# Altium footprint library MCU.PcbLib: 1 footprints
Each footprint in its own frame and in the unit in brackets; x right, y up, seen from the top. Pads: shape width x height; smd on the part's side, far side on the other; paste and mask are expansions set on the pad; w line width, h text height; cw(c..) or ccw(c..) is an arc to the next point about the centre after c.
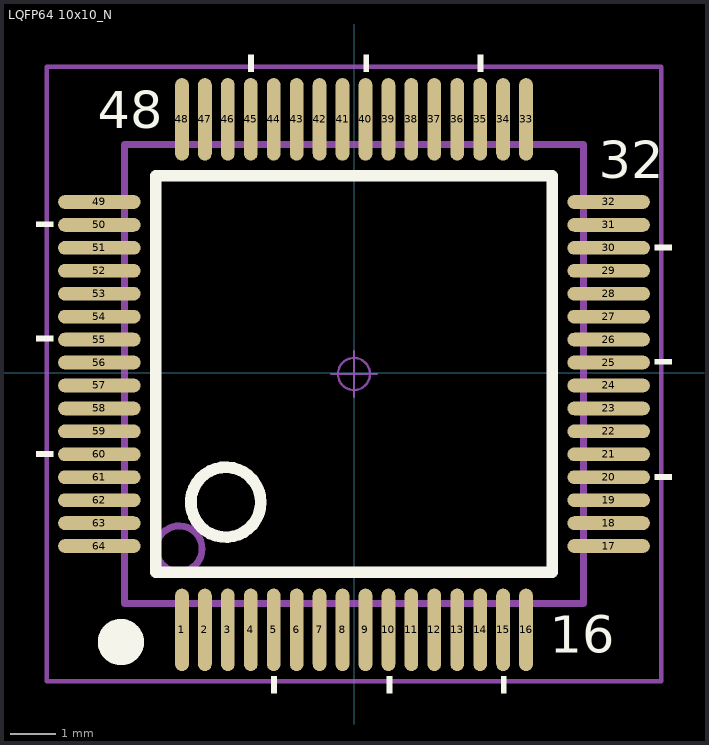
[diagram p0: the footprint, top view; thin cyan lines are the x and y axes]

## LQFP64 10x10_N [mm]
pads (64):
  oval 0.3x1.8 smd: 1(-3.75,-5.601) 2(-3.25,-5.601) 3(-2.75,-5.601) 4(-2.25,-5.601) 5(-1.75,-5.601) 6(-1.25,-5.601) 7(-0.75,-5.601) 8(-0.25,-5.601) 9(0.25,-5.601) 10(0.75,-5.601) 11(1.25,-5.601) 12(1.75,-5.601) 13(2.25,-5.601) 14(2.75,-5.601) 15(3.25,-5.601) 16(3.75,-5.601) 33(3.75,5.525) 34(3.25,5.525) 35(2.75,5.525) 36(2.25,5.525) 37(1.75,5.525) 38(1.25,5.525) 39(0.75,5.525) 40(0.25,5.525) 41(-0.25,5.525) 42(-0.75,5.525) 43(-1.25,5.525) 44(-1.75,5.525) 45(-2.25,5.525) 46(-2.75,5.525) 47(-3.25,5.525) 48(-3.75,5.525)
  oval 1.8x0.3 smd: 17(5.55,-3.775) 18(5.55,-3.275) 19(5.55,-2.775) 20(5.55,-2.275) 21(5.55,-1.775) 22(5.55,-1.275) 23(5.55,-0.775) 24(5.55,-0.275) 25(5.55,0.225) 26(5.55,0.725) 27(5.55,1.225) 28(5.55,1.725) 29(5.55,2.225) 30(5.55,2.725) 31(5.55,3.225) 32(5.55,3.725) 49(-5.55,3.725) 50(-5.55,3.225) 51(-5.55,2.725) 52(-5.55,2.225) 53(-5.55,1.725) 54(-5.55,1.225) 55(-5.55,0.725) 56(-5.55,0.225) 57(-5.55,-0.275) 58(-5.55,-0.775) 59(-5.55,-1.275) 60(-5.55,-1.775) 61(-5.55,-2.275) 62(-5.55,-2.775) 63(-5.55,-3.275) 64(-5.55,-3.775)
Top Overlay:
  circle w0.254: c-2.794,-2.819 r0.762
  circle w0.508: c-5.08,-5.867 r0.25
  region: -6.553,-1.702 -6.934,-1.702 -6.934,-1.829 -6.553,-1.829
  region: -6.553,0.813 -6.934,0.813 -6.934,0.686 -6.553,0.686
  region: -6.553,3.302 -6.934,3.302 -6.934,3.175 -6.553,3.175
  region: 6.934,-2.21 6.553,-2.21 6.553,-2.337 6.934,-2.337
  region: 6.934,0.305 6.553,0.305 6.553,0.178 6.934,0.178
  region: 6.934,2.794 6.553,2.794 6.553,2.667 6.934,2.667
  region: -2.184,6.553 -2.184,6.934 -2.311,6.934 -2.311,6.553
  region: 0.33,6.553 0.33,6.934 0.203,6.934 0.203,6.553
  region: 2.819,6.553 2.819,6.934 2.692,6.934 2.692,6.553
  region: 3.327,-6.985 3.327,-6.604 3.2,-6.604 3.2,-6.985
  region: 0.838,-6.985 0.838,-6.604 0.711,-6.604 0.711,-6.985
  region: -1.676,-6.985 -1.676,-6.604 -1.803,-6.604 -1.803,-6.985
  lines w0.254: -4.318,-4.343 -4.318,4.293 4.318,4.293 4.318,-4.343 -4.318,-4.343
  text "16" at 4.267,-6.096 h0.81
  text "32" at 5.334,4.242 h0.81
  text "48" at -5.588,5.334 h0.81
Mechanical 13:
  circle w0.15: c-3.81,-3.835 r0.5
  lines w0.15: -5,-5.025 -5,4.975 5,4.975 5,-5.025 -5,-5.025
Mechanical 15:
  circle w0.05: c0,-0.025 r0.35
  lines w0.05: -0.5,-0.025 0.5,-0.025 ; 0,-0.525 0,0.475
  lines w0.1: -6.7,-6.725 6.7,-6.725 6.7,6.675 -6.7,6.675 -6.7,-6.725
3D body: height 1.45, standoff -0.01, extent -6.003,-6.028 6.003,5.977